# EAGLE library part ADUM4136BRWZ (library ADUM4136BRWZ)
Analog Devices ADUM4136BRWZ Isolated Gate Driver MOSFET Power Driver, 4A 16-Pin, SOIC Source: Datasheet <https://datasheet.datasheetarchive.com/originals/distributors/DKDS-11/217546.pdf>
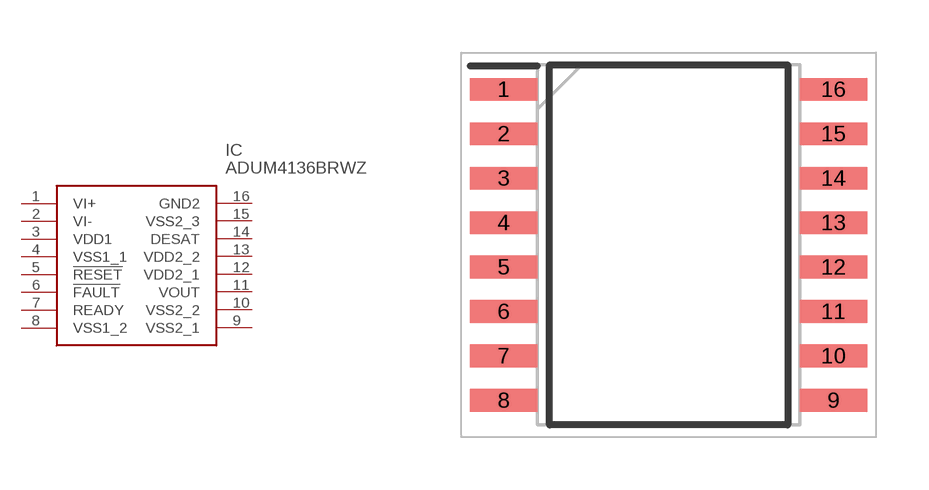
[diagram p0: symbol with the pads of SOIC127P1032X265-16N; footprint SOIC127P1032X265-16N]

Designator prefix IC

## ADUM4136BRWZ (Description: Analog Devices ADUM4136BRWZ Isolated Gate Driver MOSFET Power Driver, 4A 16-Pin, SOIC; Height: 2.65mm; Manufacturer_Name: Analog Devices; Manufacturer_Part_Number: ADUM4136BRWZ; Mouser_Part_Number: 584-ADUM4136BRWZ; Mouser_Price-Stock: https://www.mouser.co.uk/ProductDetail/Analog-Devices/ADUM4136BRWZ?qs=k%252BwXAfPrzCnA9iFf%252BwzfLg%3D%3D)  [SOIC127P1032X265-16N]
1  VI+  in
2  VI-  in
3  VDD1  pwr
4  VSS1_1  pwr
5  !RESET  in
6  !FAULT  out
7  READY  out
8  VSS1_2  pwr
9  VSS2_1  pwr
10  VSS2_2  pwr
11  VOUT  out
12  VDD2_1  pwr
13  VDD2_2  pwr
14  DESAT  in
15  VSS2_3  pwr
16  GND2  pwr

## Footprint SOIC127P1032X265-16N (pad centres in mm)
Wide Body (RW-16)
smd 1.925 x 0.65: 1 -4.712,4.445; 2 -4.712,3.175; 3 -4.712,1.905; 4 -4.712,0.635; 5 -4.712,-0.635; 6 -4.712,-1.905; 7 -4.712,-3.175; 8 -4.712,-4.445; 9 4.712,-4.445; 10 4.712,-3.175; 11 4.712,-1.905; 12 4.712,-0.635; 13 4.712,0.635; 14 4.712,1.905; 15 4.712,3.175; 16 4.712,4.445